# Altium schematic symbol library Conn_Molex_473460001_eec.SchLib: 1 symbol
Pins are listed as number, name and electrical type; pins without a type are passive.

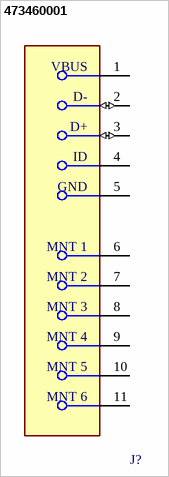
[diagram p0: symbol 473460001]

## 473460001
designator J?  (value not drawn)
pins: 1 VBUS (power), 2 D- (io), 3 D+ (io), 4 ID, 5 GND (power), 6 MNT 1, 7 MNT 2, 8 MNT 3, 9 MNT 4, 10 MNT 5, 11 MNT 6